# Altium footprint library IDC2.54-H10C.PcbLib: 1 footprints
Each footprint in its own frame and in the unit in brackets; x right, y up, seen from the top. Pads: shape width x height; smd on the part's side, far side on the other; paste and mask are expansions set on the pad; w line width, h text height; cw(c..) or ccw(c..) is an arc to the next point about the centre after c.
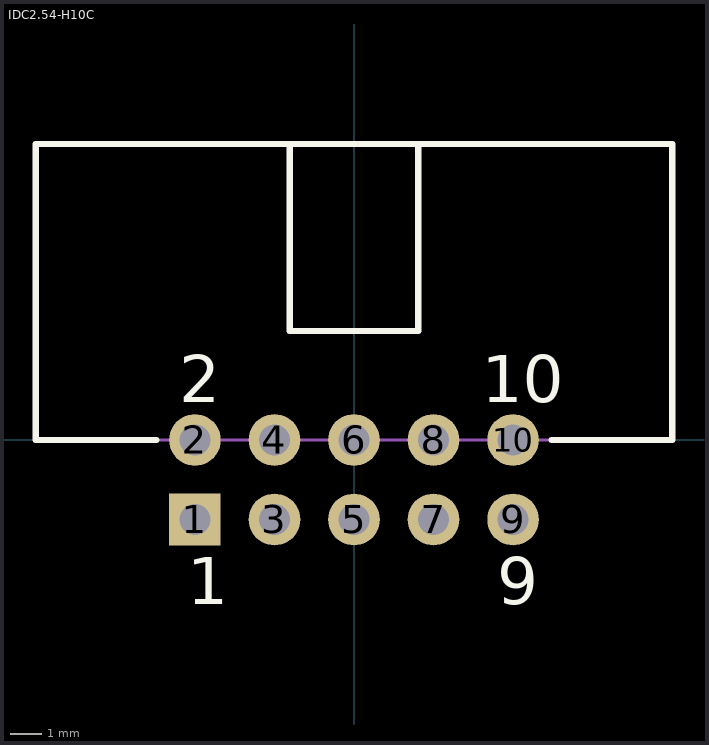
[diagram p0: the footprint, top view; thin cyan lines are the x and y axes]

## IDC2.54-H10C [mm] "Connector; IDC, Low Profile Male Header, Thru-Hole; 10 Position; Right Angle; Pitch 2.54 mm; Body 20.32 x 8.9 x 9.2 mm (LxWxH)"
height 9.2
pads (10):
  rect 1.65x1.65 hole 1: 1(-5.08,-2.54)
  round 1.65 hole 1: 2(-5.08,0) 3(-2.54,-2.54) 4(-2.54,0) 5(0,-2.54) 6(0,0) 7(2.54,-2.54) 8(2.54,0) 9(5.08,-2.54) 10(5.08,0)
Top Overlay:
  lines w0.2: -6.305,0 -10.16,0 -10.16,9.45 10.16,9.45 10.16,0 6.305,0 ; -2.05,9.45 -2.05,3.48 2.05,3.48 2.05,9.45
  text "9" at 4.58,-5.24 h1.5
  text "10" at 4.08,1.2 h1.5
  text "1" at -5.33,-5.24 h1.5
  text "2" at -5.58,1.2 h1.5
Mechanical 13:
  lines w0.1: -10.16,0 10.16,0 10.16,9.45 -10.16,9.45 -10.16,0
3D body: height 9.2, standoff 0, extent -10.16,0 10.16,9.45